# EAGLE library part 6861XX189122_686122189122 (library WR-FPC)
WR-FPC 1.00 mm SMT ZIF Horizontal Back Locking Dual Contact KIND PROPERTIES Pitch 1 mm MATERIAL PROPERTIES Insulator Material LCP Contact Material Phosphor Bronze Contact Plating 80 (µ") Tin over 50 (µ") Nickel Contact Type Stamped Solder Tabs Brass <https://www.we-online.com/catalog/media/o680359v209%20family-wr-fpc-68xx189122.jpg> Details see: https://www.we-online.com/catalog/en/WR_FPC_1_00_MM_ZIF_BACK_LOCKING_DUAL_CONTACT Created by Ella Wu 2022-03-31 2022(C) Wurth Elektronik
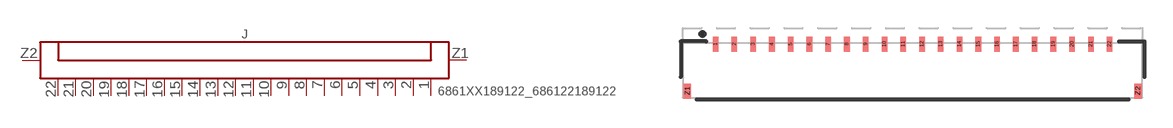
[diagram p243: symbol with the pads of 686122189122; footprint 686122189122]

Designator prefix J

## 6861XX189122_686122189122 (CONTACT-RESISTANCE: 30mOhm; DATASHEET-URL: https://www.we-online.com/redexpert/spec/686122189122?ae; IR: 0.5A; L: 24.5mm; PACKAGING: Tape and Reel; PART-NUMBER: 686122189122; PINS: 22; PITCH: 1mm; TYPE: Horizontal; VALUE: 686122189122; WORKING-VOLTAGE: 50V(AC))  [686122189122]
1  1  pas
2  2  pas
3  3  pas
4  4  pas
5  5  pas
6  6  pas
7  7  pas
8  8  pas
9  9  pas
10  10  pas
11  11  pas
12  12  pas
13  13  pas
14  14  pas
15  15  pas
16  16  pas
17  17  pas
18  18  pas
19  19  pas
20  20  pas
21  21  pas
22  22  pas
Z1  Z1  pas
Z2  Z2  pas

## Footprint 686122189122 (pad centres in mm)
WR-FPC 1.00 mm SMT ZIF Horizontal Back Locking Dual Contact 22pins
smd 0.3 x 0.8: 1 -10.5,1.25; 2 -9.5,1.25; 3 -8.5,1.25; 4 -7.5,1.25; 5 -6.5,1.25; 6 -5.5,1.25; 7 -4.5,1.25; 8 -3.5,1.25; 9 -2.5,1.25; 10 -1.5,1.25; 11 -0.5,1.25; 12 0.5,1.25; 13 1.5,1.25; 14 2.5,1.25; 15 3.5,1.25; 16 4.5,1.25; 17 5.5,1.25; 18 6.5,1.25; 19 7.5,1.25; 20 8.5,1.25; 21 9.5,1.25; 22 10.5,1.25
smd 0.4 x 0.8: Z1 -12,-1.25; Z2 12,-1.25